# Altium footprint library HRS_FH63S-20S-0.5SH.PcbLib: 1 footprints
Each footprint in its own frame and in the unit in brackets; x right, y up, seen from the top. Pads: shape width x height; smd on the part's side, far side on the other; paste and mask are expansions set on the pad; w line width, h text height; cw(c..) or ccw(c..) is an arc to the next point about the centre after c.
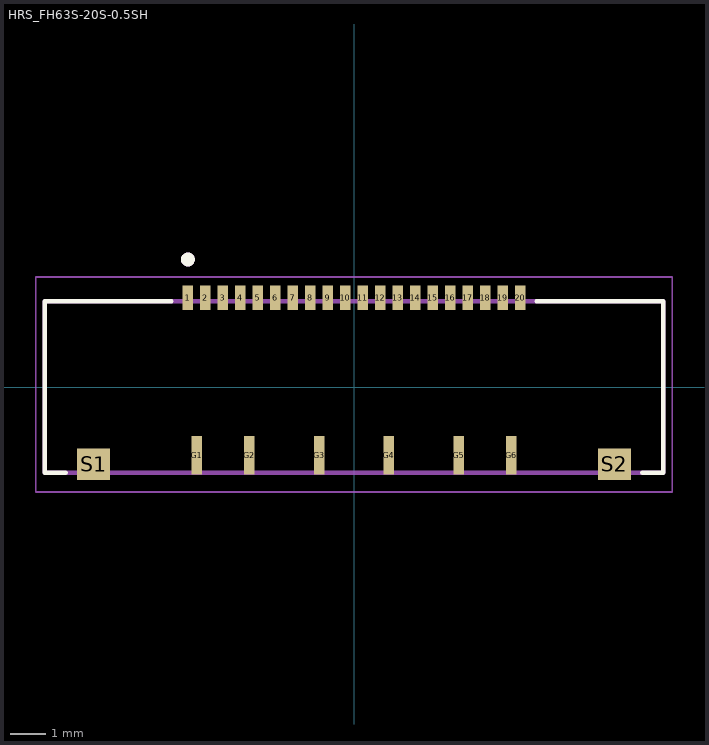
[diagram p0: the footprint, top view; thin cyan lines are the x and y axes]

## HRS_FH63S-20S-0.5SH [mm]
pads (28):
  rect 0.3x0.7 smd paste-1 mask+0.05: 1(-4.75,2.55) 2(-4.25,2.55) 3(-3.75,2.55) 4(-3.25,2.55) 5(-2.75,2.55) 6(-2.25,2.55) 7(-1.75,2.55) 8(-1.25,2.55) 9(-0.75,2.55) 10(-0.25,2.55) 11(0.25,2.55) 12(0.75,2.55) 13(1.25,2.55) 14(1.75,2.55) 15(2.25,2.55) 16(2.75,2.55) 17(3.25,2.55) 18(3.75,2.55) 19(4.25,2.55) 20(4.75,2.55)
  rect 0.3x1.1 smd paste-2: G1(-4.5,-1.95) G2(-3,-1.95) G3(-1,-1.95) G4(1,-1.95) G5(3,-1.95) G6(4.5,-1.95)
  rect 0.95x0.9 smd paste-1: S1(-7.45,-2.2) S2(7.45,-2.2)
Top Overlay:
  circle w0.2: c-4.75,3.65 r0.1
  lines w0.127: -8.245,-2.45 -8.85,-2.45 -8.85,2.45 -5.22,2.45 ; 5.22,2.45 8.85,2.45 8.85,-2.45 8.245,-2.45
Top Paste:
  region: -4.61,2.25 -4.89,2.25 -4.89,2.9 -4.61,2.9
  region: -4.11,2.25 -4.39,2.25 -4.39,2.9 -4.11,2.9
  region: -3.61,2.25 -3.89,2.25 -3.89,2.9 -3.61,2.9
  region: -3.11,2.25 -3.39,2.25 -3.39,2.9 -3.11,2.9
  region: -2.61,2.25 -2.89,2.25 -2.89,2.9 -2.61,2.9
  region: -2.11,2.25 -2.39,2.25 -2.39,2.9 -2.11,2.9
  region: -1.61,2.25 -1.89,2.25 -1.89,2.9 -1.61,2.9
  region: -1.11,2.25 -1.39,2.25 -1.39,2.9 -1.11,2.9
  region: -0.61,2.25 -0.89,2.25 -0.89,2.9 -0.61,2.9
  region: -0.11,2.25 -0.39,2.25 -0.39,2.9 -0.11,2.9
  region: -2.86,-2.5 -3.14,-2.5 -3.14,-1.55 -2.86,-1.55
  region: -4.36,-2.5 -4.64,-2.5 -4.64,-1.55 -4.36,-1.55
  region: -0.86,-2.5 -1.14,-2.5 -1.14,-1.55 -0.86,-1.55
  region: -7.05,-2.75 -7.85,-2.75 -7.85,-1.85 -7.05,-1.85
  region: 7.85,-2.75 7.05,-2.75 7.05,-1.85 7.85,-1.85
  region: 0.39,2.25 0.11,2.25 0.11,2.9 0.39,2.9
  region: 0.89,2.25 0.61,2.25 0.61,2.9 0.89,2.9
  region: 1.39,2.25 1.11,2.25 1.11,2.9 1.39,2.9
  region: 1.89,2.25 1.61,2.25 1.61,2.9 1.89,2.9
  region: 2.39,2.25 2.11,2.25 2.11,2.9 2.39,2.9
  region: 2.89,2.25 2.61,2.25 2.61,2.9 2.89,2.9
  region: 3.39,2.25 3.11,2.25 3.11,2.9 3.39,2.9
  region: 3.89,2.25 3.61,2.25 3.61,2.9 3.89,2.9
  region: 4.39,2.25 4.11,2.25 4.11,2.9 4.39,2.9
  region: 4.89,2.25 4.61,2.25 4.61,2.9 4.89,2.9
  region: 1.14,-2.5 0.86,-2.5 0.86,-1.55 1.14,-1.55
  region: 3.14,-2.5 2.86,-2.5 2.86,-1.55 3.14,-1.55
  region: 4.64,-2.5 4.36,-2.5 4.36,-1.55 4.64,-1.55
Mechanical 13:
  circle w0.2: c-4.75,3.65 r0.1
  lines w0.127: -8.85,-2.45 -8.85,2.45 8.85,2.45 8.85,-2.45 -8.85,-2.45
Mechanical 15:
  lines w0.05: -9.1,-3 -9.1,3.15 9.1,3.15 9.1,-3 -9.1,-3